# Altium footprint library Logos.PcbLib: 7 footprints
Each footprint in its own frame and in the unit in brackets; x right, y up, seen from the top. Pads: shape width x height; smd on the part's side, far side on the other; paste and mask are expansions set on the pad; w line width, h text height; cw(c..) or ccw(c..) is an arc to the next point about the centre after c.
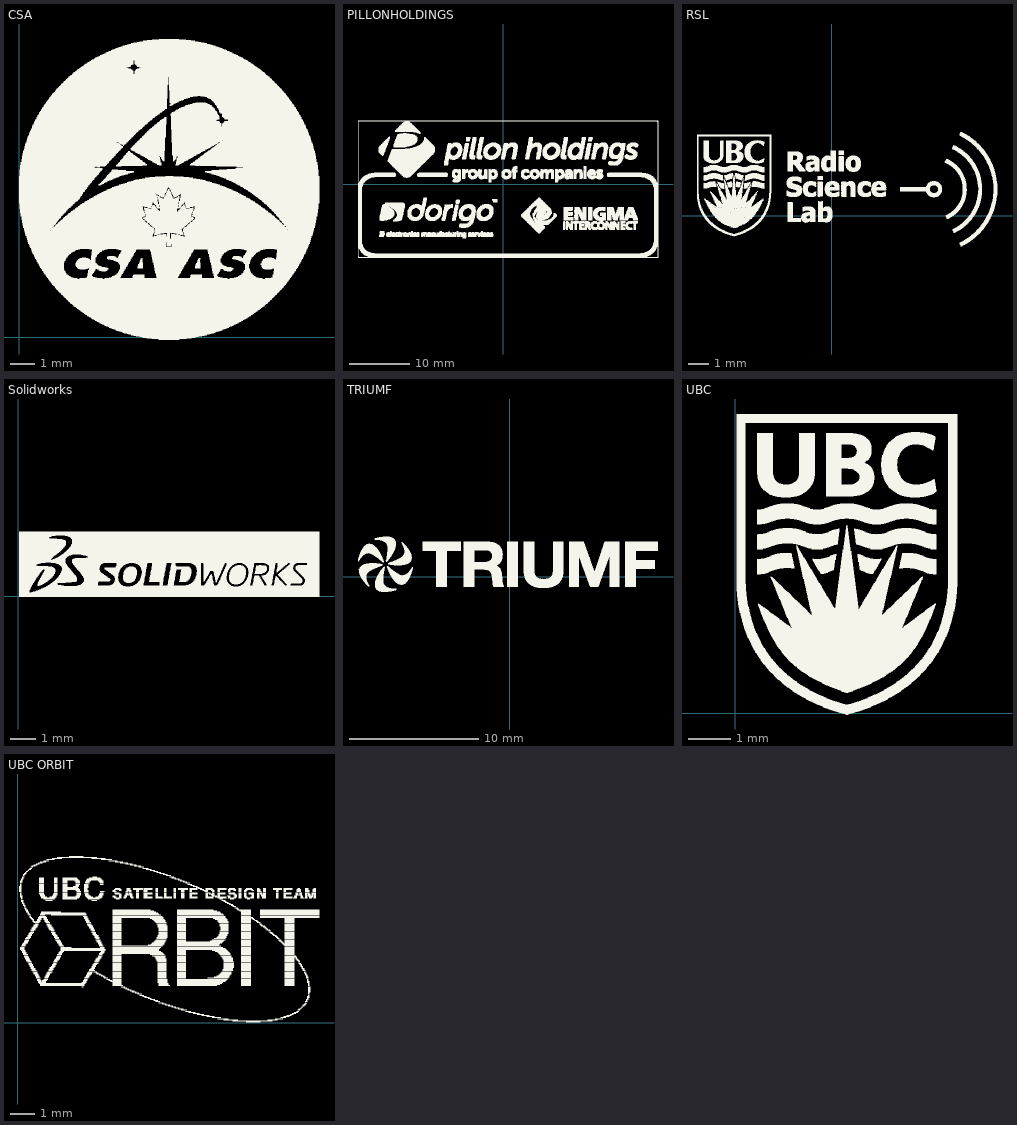
[diagram p0: the footprints below, top view; thin cyan lines are the x and y axes]

## CSA [mm]
Top Overlay:
  drawing of 1743 lines, arcs and shapes, not listed

## PILLONHOLDINGS [mm]
Top Overlay:
  drawing of 5373 lines, arcs and shapes, not listed

## RSL [mm]
Top Overlay:
  drawing of 10890 lines, arcs and shapes, not listed

## Solidworks [mm]
Top Overlay:
  drawing of 1627 lines, arcs and shapes, not listed

## TRIUMF [mm]
Top Overlay:
  drawing of 9935 lines, arcs and shapes, not listed

## UBC [mm]
Top Overlay:
  drawing of 2792 lines, arcs and shapes, not listed

## UBC ORBIT [mm]
Top Overlay:
  drawing of 1169 lines, arcs and shapes, not listed